# Altium schematic symbol library lightSCHLib.SchLib: 2 symbols
Pins are listed as number, name and electrical type; pins without a type are passive.

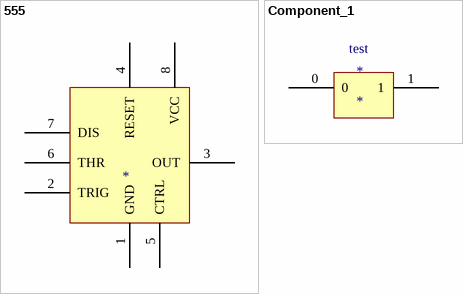
[diagram p0: symbols 555 to Component_1]

## 555
designator ?
pins: 1 GND, 2 TRIG, 3 OUT, 4 RESET, 5 CTRL, 6 THR, 7 DIS, 8 VCC

## Component_1
designator *
pins: 0, 1
text: test